# Altium footprint library Gravix-Switches.PcbLib: 1 footprints
Each footprint in its own frame and in the unit in brackets; x right, y up, seen from the top. Pads: shape width x height; smd on the part's side, far side on the other; paste and mask are expansions set on the pad; w line width, h text height; cw(c..) or ccw(c..) is an arc to the next point about the centre after c.
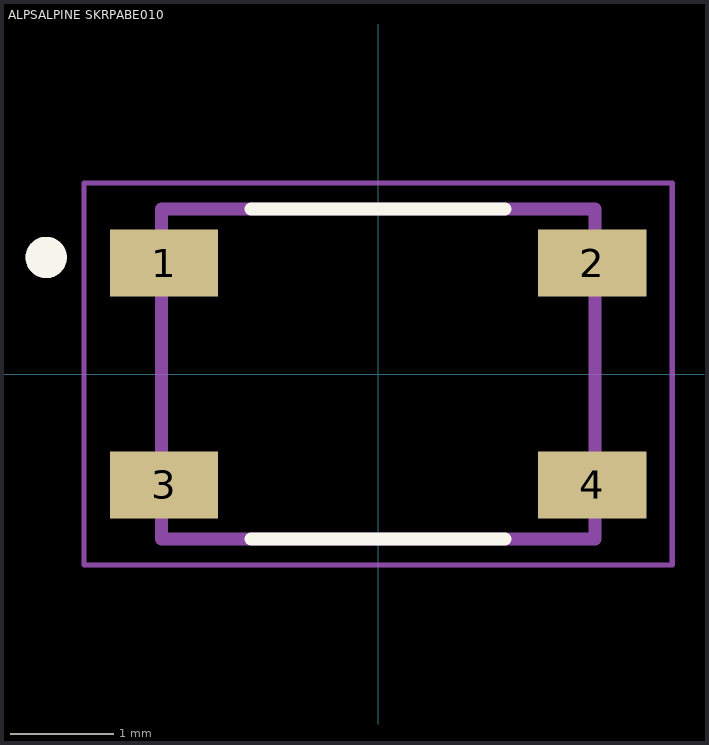
[diagram p0: the footprint, top view; thin cyan lines are the x and y axes]

## ALPSALPINE SKRPABE010 [mm]
height 2.5
pads (4):
  rect 1.05x0.65 smd: 1(-2.075,1.075) 2(2.075,1.075) 3(-2.075,-1.075) 4(2.075,-1.075)
Top Overlay:
  circle w0.2: c-3.218,1.13 r0.1
  lines w0.127: -1.23,-1.6 1.23,-1.6 ; -1.23,1.6 1.23,1.6
Mechanical 13:
  circle w0.2: c-3.218,1.13 r0.1
  lines w0.127: -2.1,-1.6 2.1,-1.6 2.1,1.6 -2.1,1.6 -2.1,-1.6
Mechanical 15:
  lines w0.05: -2.85,-1.85 -2.85,1.85 2.85,1.85 2.85,-1.85 -2.85,-1.85
3D body "step_temp.STEP": height 2.5, standoff 0, extent -2.3,-1.6 2.3,1.6